# EAGLE library part 50224-012 (library con-aces-50224-series)
ACES CONNECTORS 50224 SERIES Aces Connectors 50224 <https://www.acesconn.com/tw/series/50224-xxxxx-xxx/3165>
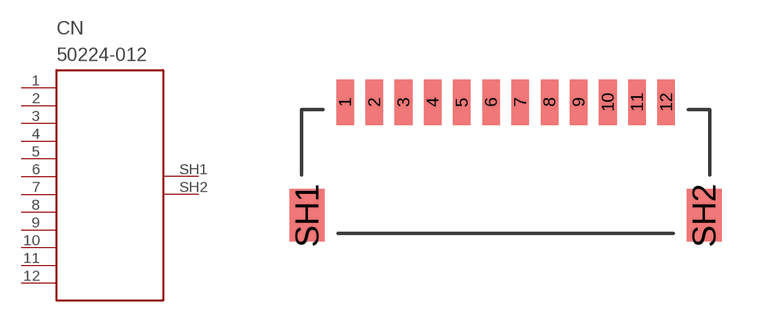
[diagram p8: symbol with the pads of 50224-012; footprint 50224-012]

Designator prefix CN

## 50224-012  [50224-012]
1  1
2  2
3  3
4  4
5  5
6  6
7  7
8  8
9  9
10  10
11  11
12  12
SH1  SH1
SH2  SH2

## Footprint 50224-012 (pad centres in mm)
smd 0.6 x 1.55: 1 -5.5,0; 2 -4.5,0; 3 -3.5,0; 4 -2.5,0; 5 -1.5,0; 6 -0.5,0; 7 0.5,0; 8 1.5,0; 9 2.5,0; 10 3.5,0; 11 4.5,0; 12 5.5,0
smd 1.2 x 1.8: SH1 -6.8,-3.875; SH2 6.8,-3.875